# Altium footprint library TSOP-28N.PcbLib: 1 footprints
Each footprint in its own frame and in the unit in brackets; x right, y up, seen from the top. Pads: shape width x height; smd on the part's side, far side on the other; paste and mask are expansions set on the pad; w line width, h text height; cw(c..) or ccw(c..) is an arc to the next point about the centre after c.
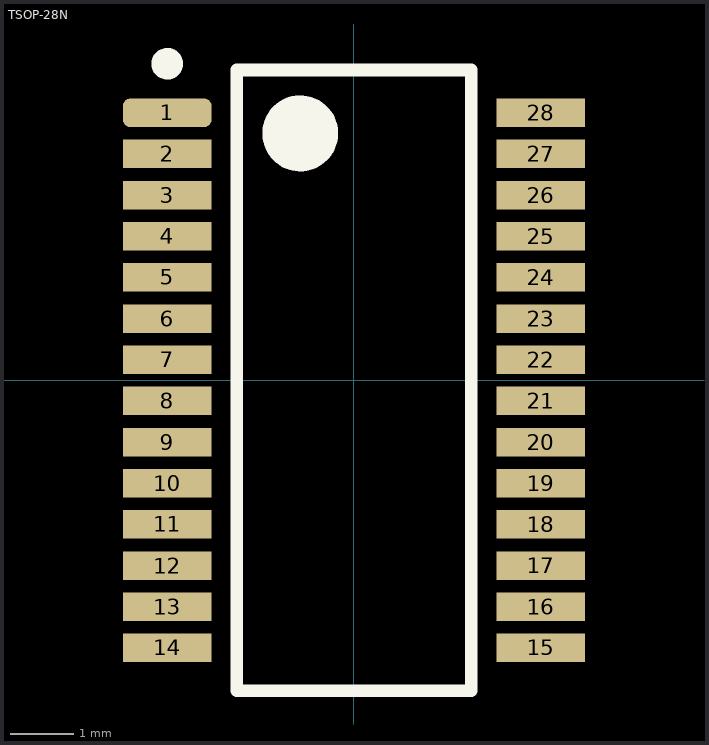
[diagram p0: the footprint, top view; thin cyan lines are the x and y axes]

## TSOP-28N [mm] "TSOP, 28-Leads, Body 9,70x4,40mm, Pitch 0,65mm, IPC Medium Density"
height 1.2
pads (28):
  rrect50% 1.4x0.45 smd: 1(-2.95,4.225)
  rect 1.4x0.45 smd: 2(-2.95,3.575) 3(-2.95,2.925) 4(-2.95,2.275) 5(-2.95,1.625) 6(-2.95,0.975) 7(-2.95,0.325) 8(-2.95,-0.325) 9(-2.95,-0.975) 10(-2.95,-1.625) 11(-2.95,-2.275) 12(-2.95,-2.925) 13(-2.95,-3.575) 14(-2.95,-4.225) 15(2.95,-4.225) 16(2.95,-3.575) 17(2.95,-2.925) 18(2.95,-2.275) 19(2.95,-1.625) 20(2.95,-0.975) 21(2.95,-0.325) 22(2.95,0.325) 23(2.95,0.975) 24(2.95,1.625) 25(2.95,2.275) 26(2.95,2.925) 27(2.95,3.575) 28(2.95,4.225)
Top Overlay:
  circle w0.6: c-0.85,3.9 r0.3
  circle w0.25: c-2.95,5 r0.125
  lines w0.2: -1.85,-4.9 1.85,-4.9 1.85,4.9 -1.85,4.9 -1.85,-4.9
3D body "TSOP-28N.step": height 1.2, standoff 0, extent -3.2,-4.9 3.2,4.9